# EAGLE library part YH-55-10 (library Dexter_Industries_Eagle_Library_Female_Sockets)
RJ11 6 connects Source:Dexter Industries LEGO MINDSTORMS NXT Female Adapter
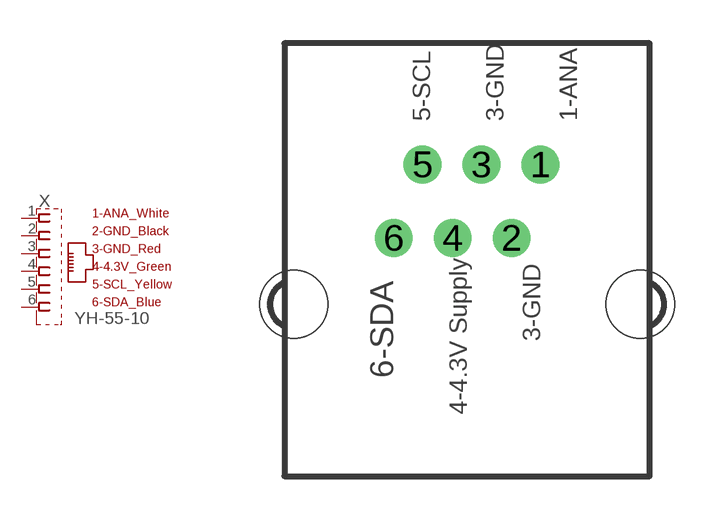
[diagram p0: symbol with the pads of YH-55-10; footprint YH-55-10]

Designator prefix X

## YH-55-10 (OC_FARNELL: unknown; OC_NEWARK: unknown)  [YH-55-10]
1  1_ANA_WHITE  pas
2  2_GND_BLACK  pas
3  3_GND_RED  pas
4  4_4.3V_GREEN  pas
5  5_SCL_YELLOW  pas
6  6_SDA_BLUE  pas

## Footprint YH-55-10 (pad centres in mm)
RJ11 6 connects Source: YH-55-10.pdf
drill 0.8 pad 1.3: 1 2.54,4.84; 2 1.54,2.3; 3 0.5,4.84; 4 -0.5,2.3; 5 -1.54,4.84; 6 -2.54,2.3
hole 2.36 at -6,0
hole 2.36 at 6,0